# Altium schematic symbol library Schlib1.SchLib: 9 symbols
Pins are listed as number, name and electrical type; pins without a type are passive.

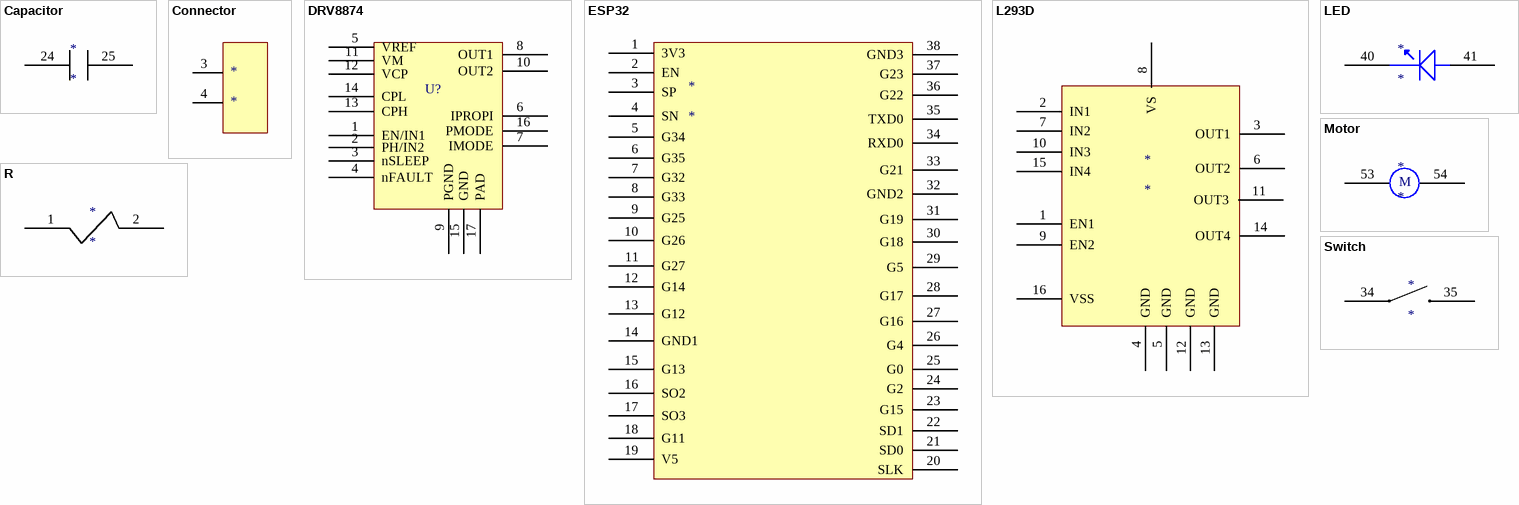
[diagram p0: symbols Capacitor to Switch]

## Capacitor
designator *
footprint Capacitor0602
pins: 24, 25

## Connector
designator *
footprint Connector
pins: 3, 4

## DRV8874
designator U?
Manufacturer: Texas Instruments; Supplier: LCSC
footprint DRV8874
pins: 1 EN/IN1 , 2 PH/IN2, 3 nSLEEP, 4 nFAULT, 5 VREF, 6 IPROPI, 7 IMODE, 8 OUT1, 9 PGND, 10 OUT2, 11 VM, 12 VCP, 13 CPH, 14 CPL, 15 GND, 16 PMODE, 17 PAD

## ESP32
designator *
footprint ESP32
pins: 1 3V3, 2 EN, 3 SP, 4 SN, 5 G34, 6 G35, 7 G32, 8 G33, 9 G25, 10 G26, 11 G27, 12 G14, 13 G12, 14 GND1, 15 G13, 16 SO2, 17 SO3, 18 G11, 19 V5, 20 SLK, 21 SD0, 22 SD1, 23 G15, 24 G2, 25 G0, 26 G4, 27 G16, 28 G17, 29 G5, 30 G18, 31 G19, 32 GND2, 33 G21, 34 RXD0, 35 TXD0, 36 G22, 37 G23, 38 GND3

## L293D
designator *
footprint L293D
pins: 1 EN1, 2 IN1, 3 OUT1, 4 GND, 5 GND, 6 OUT2, 7 IN2, 8 VS, 9 EN2, 10 IN3, 11 OUT3, 12 GND, 13 GND, 14 OUT4, 15 IN4, 16 VSS

## LED
designator *
footprint LED
pins: 40, 41

## Motor
designator *
footprint Motor
pins: 53, 54
text: M

## R
designator *
footprint Resistor0603
pins: 1, 2

## Switch
designator *
footprint Swicth
pins: 34, 35